# Altium schematic symbol library RM_addition.SchLib: 86 symbols
Pins are listed as number, name and electrical type; pins without a type are passive.

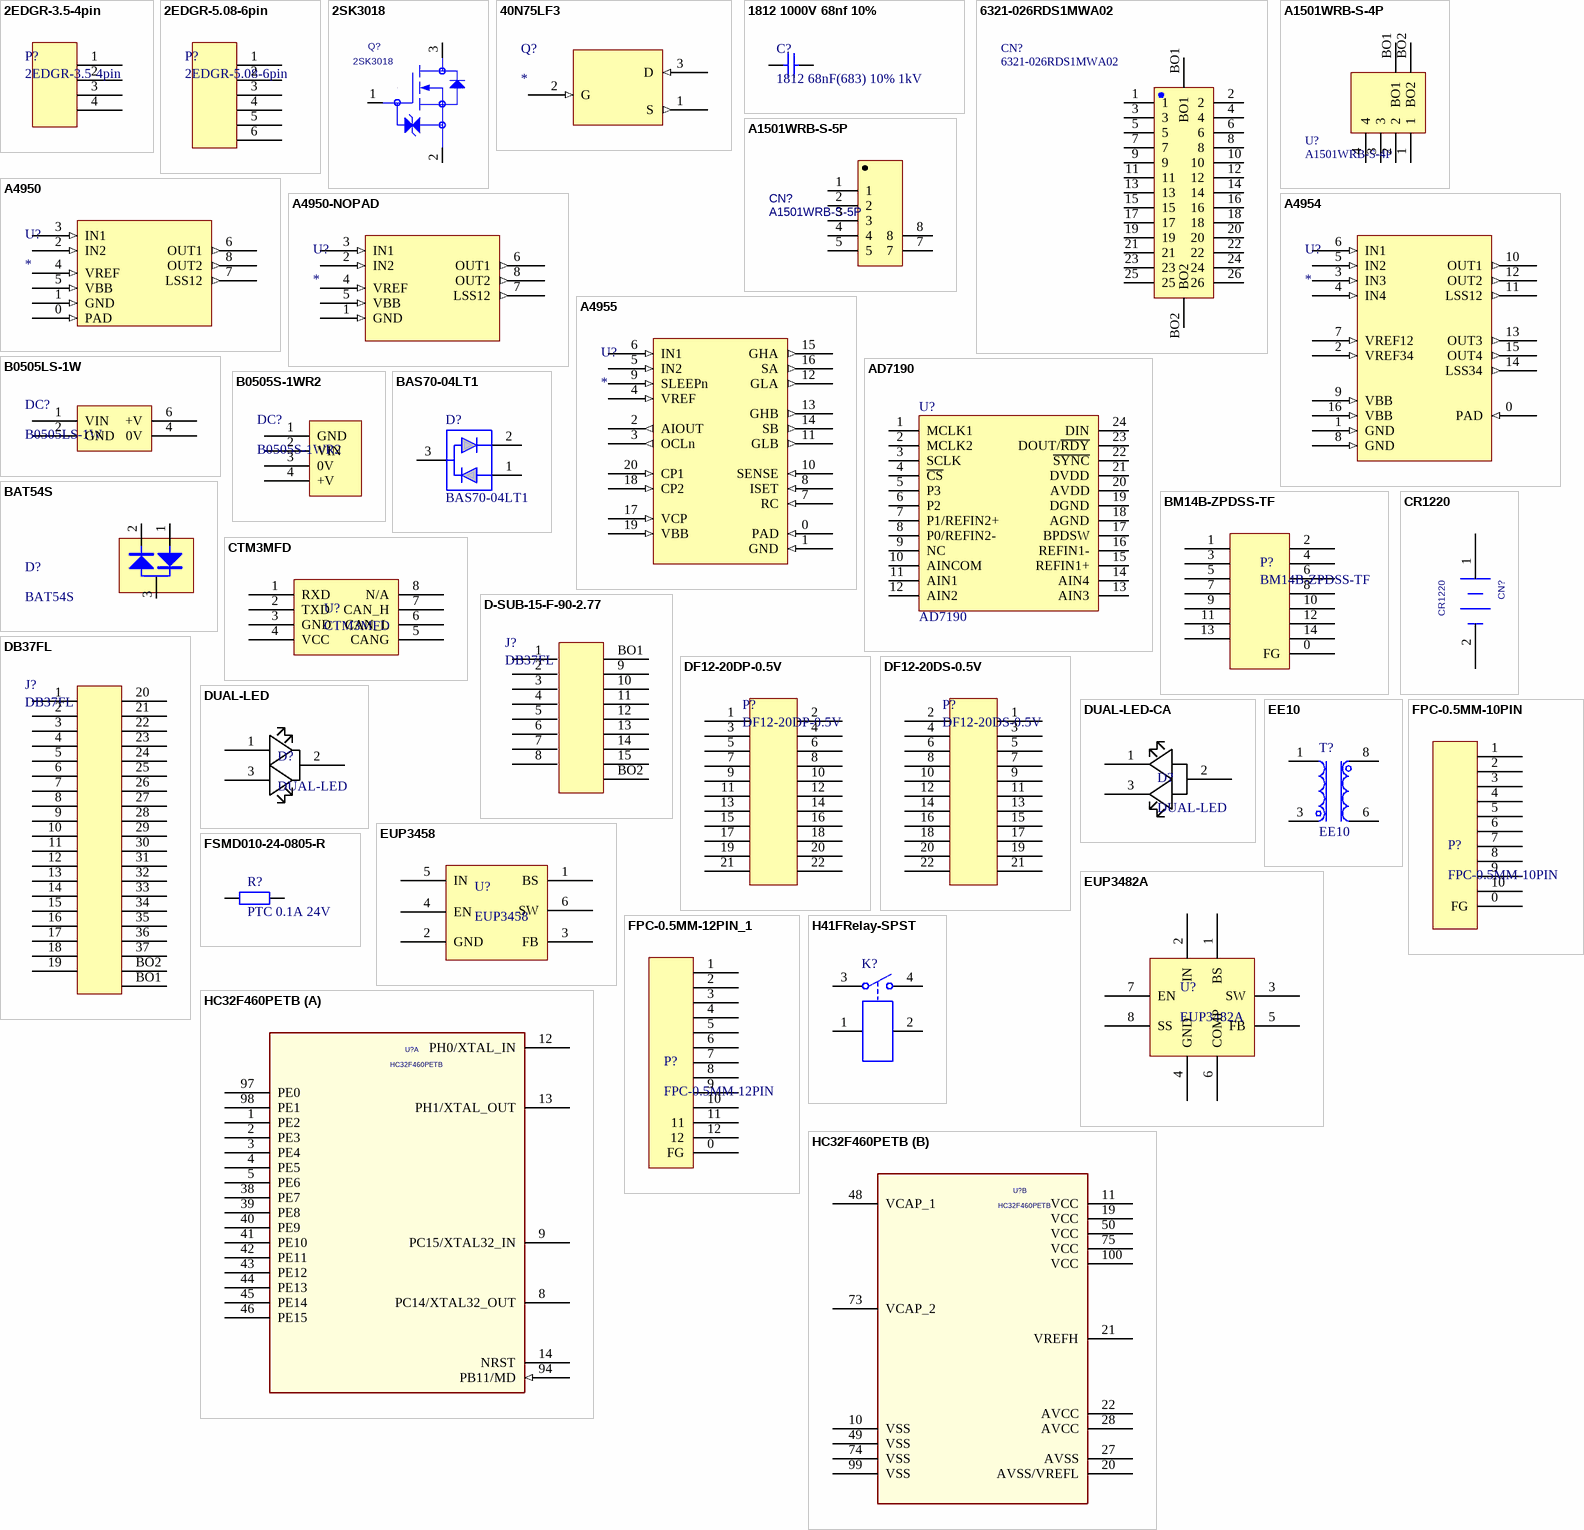
[diagram p0: symbols 2EDGR-3.5-4pin to HC32F460PETB]

## 2EDGR-3.5-4pin
designator P?
footprint KF2EDGR-3.5MM-4P
pins: 1 (oc), 2 (oc), 3 (oc), 4 (oc)

## 2EDGR-5.08-6pin
designator P?
footprint 2EDGR-6PIN-5P08
pins: 1 (oc), 2 (oc), 3 (oc), 4 (oc), 5 (oc), 6 (oc)

## 2SK3018
designator Q?
TRANS MOSFET N-CH 30V .1A SOT-323; PCB DECAL: SOT23; AGILE_PN: 480-75317; MFG_NAME01: ROHM; MFG_PN01: 2SK3018T106; CAD_APPROVED: Yes; Source_Path: H:\NXP_RT1050\SCH\CORE_SCH\IMXRT1052_180113.DSN; CLASS: IC; ROHS: Yes; HEIGHT: 0.9MM; Value: 2SK3018
footprint SOT-23(SOT-23-3)
pins: 1 GATE, 2 SOURCE, 3 DRAIN

## 40N75LF3
designator Q?
N-Ch MOSFET
footprint SOP-8_150mil
pins: 1 S (out), 2 G (in), 3 D (in)

## 1812 1000V 68nf 10%
designator C?, comment 1812 68nF(683) 10% 1kV
footprint 1812_C
pins: 1, 2

## 6321-026RDS1MWA02
designator CN?
SCSI连接器 26P; BOM_Manufacturer: Wcon; Contributor: LCSC; BOM_Supplier: LCSC; BOM_Supplier Part: C843200; BOM_Manufacturer Part: 6321-026RDS1MWA02; BOM_JLCPCB Part Class: Extended Part; spicePre: D; spiceSymbolName: 6321-026RDS1MWA02
footprint CONN-TH_6321-026RDS1MWA02
pins: 1, 2, 3, 4, 5, 6, 7, 8, 9, 10, 11, 12, 13, 14, 15, 16, 17, 18, 19, 20, 21, 22, 23, 24, 25, 26, BO1, BO2

## A1501WRB-S-4P
designator U?
线对板/线对线连接器; BOM_Manufacturer: Changjiang Connectors; Contributor: LCSC; BOM_Supplier: LCSC; BOM_Supplier Part: C273026; BOM_Manufacturer Part: A1501WRB-S-4P; BOM_JLCPCB Part Class: Extended Part; spicePre: U; spiceSymbolName: A1501WRB-S-4P
footprint CONN-SMD_4P-P1.50_A1501WRB-S-4P
pins: 1, 2, 3, 4, BO1, BO2

## A1501WRB-S-5P
designator CN?
线对线/线对板连接器; BOM_Manufacturer: Changjiang Connectors; Contributor: LCSC; BOM_Supplier: LCSC; BOM_Supplier Part: C273027; BOM_Manufacturer Part: A1501WRB-S-5P; BOM_JLCPCB Part Class: Extended Part; spicePre: C; spiceSymbolName: A1501WRB-S-5P
footprint CONN-SMD_A1501WRB-S-5P (线对线/线对板连接器)
pins: 1, 2, 3, 4, 5, 7, 8

## A4950
designator U?
full-bridge  PWM Gate Driver
footprint SOIC-8_EP_150mil
pins: 0 PAD (in), 1 GND (in), 2 IN2 (in), 3 IN1 (in), 4 VREF (in), 5 VBB (in), 6 OUT1 (out), 7 LSS12 (out), 8 OUT2 (out)

## A4950-NOPAD
designator U?
full-bridge  PWM Gate Driver
footprint SOIC-8_150mil
pins: 1 GND (in), 2 IN2 (in), 3 IN1 (in), 4 VREF (in), 5 VBB (in), 6 OUT1 (out), 7 LSS12 (out), 8 OUT2 (out)

## A4954
designator U?
full-bridge  PWM Gate Driver
footprint HTSSOP-16
pins: 0 PAD (in), 1 GND (in), 2 VREF34 (in), 3 IN3 (in), 4 IN4 (in), 5 IN2 (in), 6 IN1 (in), 7 VREF12 (in), 8 GND (in), 9 VBB (in), 10 OUT1 (out), 11 LSS12 (out), 12 OUT2 (out), 13 OUT3 (out), 14 LSS34 (out), 15 OUT4 (out), 16 VBB (in)

## A4955
designator U?
full-bridge  PWM Gate Driver
footprint HTSSOP-20
pins: 0 PAD (in), 1 GND (in), 2 AIOUT (out), 3 OCLn (out), 4 VREF (in), 5 IN2 (in), 6 IN1 (in), 7 RC (in), 8 ISET (in), 9 SLEEPn (in), 10 SENSE (in), 11 GLB (out), 12 GLA (out), 13 GHB (out), 14 SB (out), 15 GHA (out), 16 SA (out), 17 VCP (in), 18 CP2 (in), 19 VBB (in), 20 CP1 (in)

## AD7190
designator U?
footprint TSSOP-24
pins: 1 MCLK1, 2 MCLK2, 3 SCLK, 4 ~{CS}, 5 P3, 6 P2, 7 P1/REFIN2+, 8 P0/REFIN2-, 9 NC, 10 AINCOM, 11 AIN1, 12 AIN2, 13 AIN3, 14 AIN4, 15 REFIN1+, 16 REFIN1-, 17 BPDSW, 18 AGND, 19 DGND, 20 AVDD, 21 DVDD, 22 ~{SYNC}, 23 DOUT/~{RDY}, 24 DIN

## B0505LS-1W
designator DC?
B0505LS-1W 5V TO 5V，1W; ComponentLink1Description: datasheet; ComponentLink1URL: https://www.mornsun-power.com/uploads/pdf/B_LS-1W.pdf
footprint SIP-4
pins: 1 VIN (power), 2 GND (power), 4 0V (power), 6 +V (power)

## B0505S-1WR2
designator DC?
B0505LS-1W 5V TO 5V，1W; ComponentLink1Description: datasheet; ComponentLink1URL: https://www.mornsun-power.com/uploads/pdf/B_LS-1W.pdf
footprint B-1WR2
pins: 1 GND (power), 2 VIN (power), 3 0V (power), 4 +V (power)

## BAS70-04LT1
designator D?
70V,70mA,VF=0.41V@1mA
footprint SOT-23-3L
pins: 1 DIODE1, 2 DIODE2, 3 COM_CATHODE

## BAT54S
designator D?
Package: LC-SOP-16_150mil; Supplier: LC; SuppliersPartNumber: C43697
footprint SOT-23(SOT-23-3)
pins: 1 1INA, 2 1INB, 3 1OUTB

## BM14B-ZPDSS-TF
designator P?
JST; ComponentLink1Description: TAOBAO; ComponentLink1URL: https://item.taobao.com/item.htm?id=601743351670&tracelogww=ltckbburl
footprint BM14B-ZPDSS-TF
pins: 0 FG (oc), 1 (oc), 2 (oc), 3 (oc), 4 (oc), 5 (oc), 6 (oc), 7 (oc), 8 (oc), 9 (oc), 10 (oc), 11 (oc), 12 (oc), 13 (oc), 14 (oc)

## CR1220
designator CN?
Source_Path: H:\NXP_RT1050\SCH\SCHLIB\YHSCHLIB.OLB; PCB DECAL: CR1220; Value: CR1220
footprint CR1220
pins: 1 BAT, 2 GND

## CTM3MFD
designator U?
隔离3.3 CAN模组; ComponentLink1Description: 立创; ComponentLink1URL: https://item.szlcsc.com/144669.html
footprint RSM485M
pins: 1 RXD (oc), 2 TXD (oc), 3 GND (oc), 4 VCC (oc), 5 CANG (oc), 6 CAN_L (oc), 7 CAN_H (oc), 8 N/A (oc)

## D-SUB-15-F-90-2.77
designator J?, comment DB37FL
footprint D-SUB-15P-F-90-2.77 (90度弯角)
pins: 1, 2, 3, 4, 5, 6, 7, 8, 9, 10, 11, 12, 13, 14, 15, BO1 (oc), BO2 (oc)

## DB37FL
designator J?
footprint DB37FL (90度弯角)
pins: 1, 2, 3, 4, 5, 6, 7, 8, 9, 10, 11, 12, 13, 14, 15, 16, 17, 18, 19, 20, 21, 22, 23, 24, 25, 26, 27, 28, 29, 30, 31, 32, 33, 34, 35, 36, 37, BO1 (oc), BO2 (oc)

## DF12-20DP-0.5V
designator P?
footprint DF12-20DP-0.5V (HRS BTB DF12-20DP-0.5V)
pins: 1 (oc), 2 (oc), 3 (oc), 4 (oc), 5 (oc), 6 (oc), 7 (oc), 8 (oc), 9 (oc), 10 (oc), 11 (oc), 12 (oc), 13 (oc), 14 (oc), 15 (oc), 16 (oc), 17 (oc), 18 (oc), 19 (oc), 20 (oc), 21 (oc), 22 (oc)

## DF12-20DS-0.5V
designator P?
footprint DF12-20DS-0.5V (HRS BTB DF12-20DS-0.5V)
pins: 1 (oc), 2 (oc), 3 (oc), 4 (oc), 5 (oc), 6 (oc), 7 (oc), 8 (oc), 9 (oc), 10 (oc), 11 (oc), 12 (oc), 13 (oc), 14 (oc), 15 (oc), 16 (oc), 17 (oc), 18 (oc), 19 (oc), 20 (oc), 21 (oc), 22 (oc)

## DUAL-LED
designator D?
footprint DUAL-LED
pins: 1, 2, 3

## DUAL-LED-CA
designator D?, comment DUAL-LED
footprint DUAL-LED
pins: 1, 2, 3

## EE10
designator T?
Transformer; Published: 24-Mar-1999; LatestRevisionDate: 08-Jul-2005; LatestRevisionNote: Mech Layer 1 removed.; PackageReference: TRANS; Publisher: Altium Limited; PackageDescription: Transformer; 4 Leads
simulation model TRANSFORMER (Transformer)
footprint EE10-TRAN
pins: 1, 3, 6, 8

## EUP3458
designator U?
EUP3458-1.2A,30V,1.2MHz降压型DC-DC变换器
footprint SOT-23-6
pins: 1 BS (power) "vss", 2 GND (power) "vss", 3 FB (power) "vss", 4 EN (power) "vss", 5 IN (power) "vss", 6 SW (power) "vss"

## EUP3482A
designator U?
2A, 30V, 340KHz Synchronous / Step-Down Converter
footprint SOP-8_150mil
pins: 1 BS (power) "vss", 2 IN (power) "vss", 3 SW (power) "vss", 4 GND (power) "vss", 5 FB (oc), 6 COMP (oc), 7 EN (power) "vss", 8 SS (power) "vss"

## FPC-0.5MM-10PIN
designator P?
footprint Edge Connector-0.5mm-10PIN
pins: 0 FG (oc), 1 (oc), 2 (oc), 3 (oc), 4 (oc), 5 (oc), 6 (oc), 7 (oc), 8 (oc), 9 (oc), 10 (oc)

## FPC-0.5MM-12PIN_1
designator P?, comment FPC-0.5MM-12PIN
footprint Edge Connector-0.5mm-12PIN
pins: 0 FG (oc), 1 (oc), 2 (oc), 3 (oc), 4 (oc), 5 (oc), 6 (oc), 7 (oc), 8 (oc), 9 (oc), 10 (oc), 11 (oc), 12 (oc)

## FSMD010-24-0805-R
designator R?, comment PTC 0.1A 24V
PTC自恢复保险丝; ComponentLink1Description: 供应商链接; ComponentLink1URL: http://www.szlcsc.com/product/details_26014.html; Package: 0805; Supplier: LC; SuppliersPartNumber: C25271
footprint 0805_R
pins: 1, 2

## H41FRelay-SPST
designator K?
Single-Pole Single-Throw Relay; Published: 24-Mar-1999; LatestRevisionDate: 17-Jul-2002; LatestRevisionNote: Re-released for DXP Platform.; PackageReference: MODULE4; Publisher: Altium Limited
footprint HF41F/24-HS
simulation model SPSTRELAY (Spice Subcircuit)
pins: 1, 2, 3, 4

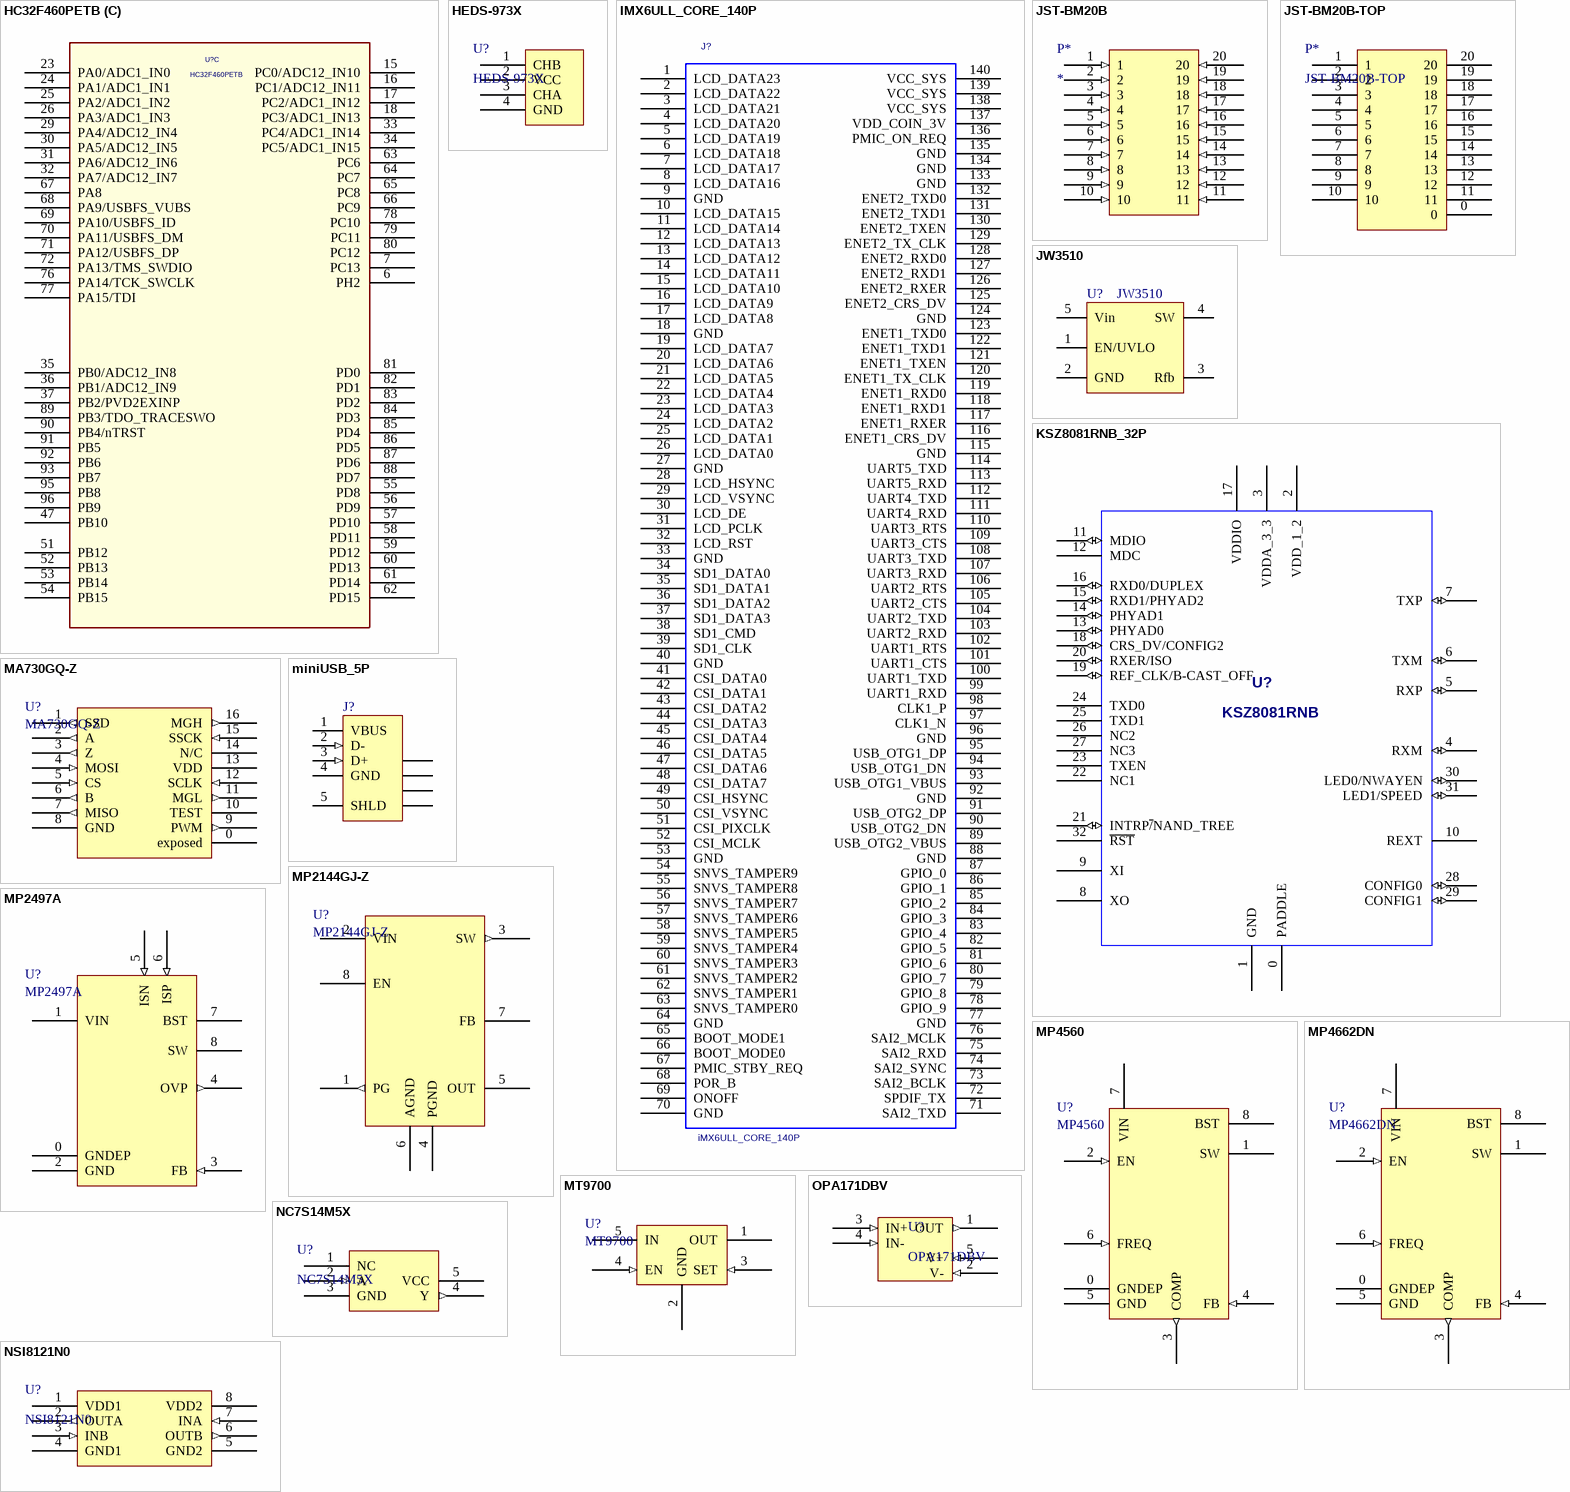
[diagram p1: symbols HC32F460PETB to OPA171DBV]

## HC32F460PETB
designator U?, comment < Value >: HC32F460PETB  (hidden comment: Value)
OriginalSymbolOrigin: (20000,20000); C: Copyright (C) 2016 Accelerated Designs. All rights reserved; Designator: 3; MFG_NAME01: HDSC; Copyright: Copyright (C) 2016 Accelerated Designs. All rights reserved; Manufacturer_Part_Number: HC32F460PETB; PackageName: HC32F460PETB; MFG_PN01: HC32F460PETB
footprint LQFP-100_14x14x05P
part A pins: 1 PE2, 2 PE3, 3 PE4, 4 PE5, 5 PE6, 8 PC14/XTAL32_OUT, 9 PC15/XTAL32_IN, 12 PH0/XTAL_IN, 13 PH1/XTAL_OUT, 14 NRST, 38 PE7, 39 PE8, 40 PE9, 41 PE10, 42 PE11, 43 PE12, 44 PE13, 45 PE14, 46 PE15, 94 PB11/MD (in), 97 PE0, 98 PE1
part B pins: 10 VSS (power), 11 VCC (power), 19 VCC (power), 20 AVSS/VREFL (power), 21 VREFH (power), 22 AVCC (power), 27 AVSS (power), 28 AVCC (power), 48 VCAP_1 (power), 49 VSS (power), 50 VCC (power), 73 VCAP_2 (power), 74 VSS (power), 75 VCC (power), 99 VSS (power), 100 VCC (power)
part C pins: 6 PH2 (power), 7 PC13, 15 PC0/ADC12_IN10, 16 PC1/ADC12_IN11, 17 PC2/ADC1_IN12, 18 PC3/ADC1_IN13, 23 PA0/ADC1_IN0, 24 PA1/ADC1_IN1, 25 PA2/ADC1_IN2, 26 PA3/ADC1_IN3, 29 PA4/ADC12_IN4, 30 PA5/ADC12_IN5, 31 PA6/ADC12_IN6, 32 PA7/ADC12_IN7, 33 PC4/ADC1_IN14, 34 PC5/ADC1_IN15, 35 PB0/ADC12_IN8, 36 PB1/ADC12_IN9, 37 PB2/PVD2EXINP, 47 PB10, 51 PB12, 52 PB13, 53 PB14, 54 PB15, 55 PD8, 56 PD9, 57 PD10, 58 PD11, 59 PD12, 60 PD13, 61 PD14, 62 PD15, 63 PC6, 64 PC7, 65 PC8, 66 PC9, 67 PA8, 68 PA9/USBFS_VUBS, 69 PA10/USBFS_ID, 70 PA11/USBFS_DM, 71 PA12/USBFS_DP, 72 PA13/TMS_SWDIO, 76 PA14/TCK_SWCLK, 77 PA15/TDI, 78 PC10, 79 PC11, 80 PC12, 81 PD0, 82 PD1, 83 PD2, 84 PD3, 85 PD4, 86 PD5, 87 PD6, 88 PD7, 89 PB3/TDO_TRACESWO, 90 PB4/nTRST, 91 PB5, 92 PB6, 93 PB7, 95 PB8, 96 PB9

## HEDS-973X
designator U?
HEDS-973X 对射式读头
footprint HEDS-9731
pins: 1 CHB (oc), 2 VCC (oc), 3 CHA (oc), 4 GND (oc)

## IMX6ULL_CORE_140P
designator J?
PCB DECAL: 6ULL_CORE_140P_39X39; Source_Path: C:\MYPROGRAM\CADENCE\SPB_16.6\TOOLS\CAPTURE\LIBRARY\SCH.OLB; Value: iMX6ULL_CORE_140P
footprint IMX6ULL_SOM_S1_140P_39X39
pins: 1 LCD_DATA23 (oc), 2 LCD_DATA22 (oc), 3 LCD_DATA21 (oc), 4 LCD_DATA20 (oc), 5 LCD_DATA19 (oc), 6 LCD_DATA18 (oc), 7 LCD_DATA17 (oc), 8 LCD_DATA16 (oc), 9 GND (oc), 10 LCD_DATA15 (oc), 11 LCD_DATA14 (oc), 12 LCD_DATA13 (oc), 13 LCD_DATA12 (oc), 14 LCD_DATA11 (oc), 15 LCD_DATA10 (oc), 16 LCD_DATA9 (oc), 17 LCD_DATA8 (oc), 18 GND (oc), 19 LCD_DATA7 (oc), 20 LCD_DATA6 (oc), 21 LCD_DATA5 (oc), 22 LCD_DATA4 (oc), 23 LCD_DATA3 (oc), 24 LCD_DATA2 (oc), 25 LCD_DATA1 (oc), 26 LCD_DATA0 (oc), 27 GND (oc), 28 LCD_HSYNC (oc), 29 LCD_VSYNC (oc), 30 LCD_DE (oc), 31 LCD_PCLK (oc), 32 LCD_RST (oc), 33 GND (oc), 34 SD1_DATA0 (oc), 35 SD1_DATA1 (oc), 36 SD1_DATA2 (oc), 37 SD1_DATA3 (oc), 38 SD1_CMD (oc), 39 SD1_CLK (oc), 40 GND (oc), 41 CSI_DATA0 (oc), 42 CSI_DATA1 (oc), 43 CSI_DATA2 (oc), 44 CSI_DATA3 (oc), 45 CSI_DATA4 (oc), 46 CSI_DATA5 (oc), 47 CSI_DATA6 (oc), 48 CSI_DATA7 (oc), 49 CSI_HSYNC (oc), 50 CSI_VSYNC (oc), 51 CSI_PIXCLK (oc), 52 CSI_MCLK (oc), 53 GND (oc), 54 SNVS_TAMPER9 (oc), 55 SNVS_TAMPER8 (oc), 56 SNVS_TAMPER7 (oc), 57 SNVS_TAMPER6 (oc), 58 SNVS_TAMPER5 (oc), 59 SNVS_TAMPER4 (oc), 60 SNVS_TAMPER3 (oc), 61 SNVS_TAMPER2 (oc), 62 SNVS_TAMPER1 (oc), 63 SNVS_TAMPER0 (oc), 64 GND (oc), 65 BOOT_MODE1 (oc), 66 BOOT_MODE0 (oc), 67 PMIC_STBY_REQ (oc), 68 POR_B (oc), 69 ONOFF (oc), 70 GND (oc), 71 SAI2_TXD (oc), 72 SPDIF_TX (oc), 73 SAI2_BCLK (oc), 74 SAI2_SYNC (oc), 75 SAI2_RXD (oc), 76 SAI2_MCLK (oc), 77 GND (oc), 78 GPIO_9 (oc), 79 GPIO_8 (oc), 80 GPIO_7 (oc), 81 GPIO_6 (oc), 82 GPIO_5 (oc), 83 GPIO_4 (oc), 84 GPIO_3 (oc), 85 GPIO_2 (oc), 86 GPIO_1 (oc), 87 GPIO_0 (oc), 88 GND (oc), 89 USB_OTG2_VBUS (oc), 90 USB_OTG2_DN (oc), 91 USB_OTG2_DP (oc), 92 GND (oc), 93 USB_OTG1_VBUS (oc), 94 USB_OTG1_DN (oc), 95 USB_OTG1_DP (oc), 96 GND (oc), 97 CLK1_N (oc), 98 CLK1_P (oc), 99 UART1_RXD (oc), 100 UART1_TXD (oc), 101 UART1_CTS (oc), 102 UART1_RTS (oc), 103 UART2_RXD (oc), 104 UART2_TXD (oc), 105 UART2_CTS (oc), 106 UART2_RTS (oc), 107 UART3_RXD (oc), 108 UART3_TXD (oc), 109 UART3_CTS (oc), 110 UART3_RTS (oc), 111 UART4_RXD (oc), 112 UART4_TXD (oc), 113 UART5_RXD (oc), 114 UART5_TXD (oc), 115 GND (oc), 116 ENET1_CRS_DV (oc), 117 ENET1_RXER (oc), 118 ENET1_RXD1 (oc), 119 ENET1_RXD0 (oc), 120 ENET1_TX_CLK (oc), 121 ENET1_TXEN (oc), 122 ENET1_TXD1 (oc), 123 ENET1_TXD0 (oc), 124 GND (oc), 125 ENET2_CRS_DV (oc), 126 ENET2_RXER (oc), 127 ENET2_RXD1 (oc), 128 ENET2_RXD0 (oc), 129 ENET2_TX_CLK (oc), 130 ENET2_TXEN (oc), 131 ENET2_TXD1 (oc), 132 ENET2_TXD0 (oc), 133 GND (oc), 134 GND (oc), 135 GND (oc), 136 PMIC_ON_REQ (oc), 137 VDD_COIN_3V (oc), 138 VCC_SYS (oc), 139 VCC_SYS (oc), 140 VCC_SYS (oc)

## JST-BM20B
designator P*
JST_BM20B-GHDS-G-TF
footprint BM20B-TOP
pins: 1 (in), 2 (in), 3 (in), 4 (in), 5 (in), 6 (in), 7 (in), 8 (in), 9 (in), 10 (in), 11 (in), 12 (in), 13 (in), 14 (in), 15 (in), 16 (in), 17 (in), 18 (in), 19 (in), 20 (in)

## JST-BM20B-TOP
designator P*
footprint JST-BM20B-TOP
pins: 0 (oc), 1 (oc), 2 (oc), 3 (oc), 4 (oc), 5 (oc), 6 (oc), 7 (oc), 8 (oc), 9 (oc), 10 (oc), 11 (oc), 12 (oc), 13 (oc), 14 (oc), 15 (oc), 16 (oc), 17 (oc), 18 (oc), 19 (oc), 20 (oc)

## JW3510
designator U?
48VIN Micropower No-Opto / Isolated Flyback Converter with 75V/1.4A Switch
footprint SOT-23-5
pins: 1 EN/UVLO, 2 GND, 3 Rfb, 4 SW, 5 Vin

## KSZ8081RNB_32P
designator U?  value KSZ8081RNB  (hidden comment: KSZ8081RNB_32P)
IC XCVR 10/100M EPHY 3.3V QFN32; CAD_APPROVED: Yes; MFG_PN01: KSZ8081RNBIA; MFG_NAME01: Micrel; AGILE_PN: 312-81089; PCB DECAL: QFN32_0P5_EP3P3; Source_Path: Q:\ORCADCIS\SYMBOLS\FCL_IC5.OLB; HEIGHT: 0.9MM; ROHS: Yes; CLASS: IC
footprint QFN-32_5x5x05P
pins: 0 PADDLE (power), 1 GND (power), 2 VDD_1_2 (power), 3 VDDA_3_3 (power), 4 RXM (io), 5 RXP (io), 6 TXM (io), 7 TXP (io), 8 XO, 9 XI, 10 REXT, 11 MDIO (io), 12 MDC, 13 PHYAD0 (io), 14 PHYAD1 (io), 15 RXD1/PHYAD2 (io), 16 RXD0/DUPLEX (io), 17 VDDIO (power), 18 CRS_DV/CONFIG2 (io), 19 REF_CLK/B-CAST_OFF (io), 20 RXER/ISO (io), 21 INTRP~{/}NAND_TREE (io), 22 NC1, 23 TXEN, 24 TXD0, 25 TXD1, 26 NC2, 27 NC3, 28 CONFIG0 (io), 29 CONFIG1 (io), 30 LED0/NWAYEN (io), 31 LED1/SPEED (io), 32 ~{RST}

## MA730GQ-Z
designator U?
角度传感器
footprint QFN-16_3x3x05P (QFN, 16-Leads, Body 3.00x3.00mm, Pitch 0.50mm, Thermal Pad 1.70x1.70mm, IPC Medium Density)
pins: 0 exposed (oc), 1 SSD (out), 2 A (out), 3 Z (out), 4 MOSI (in), 5 CS (in), 6 B (out), 7 MISO (out), 8 GND (power), 9 PWM (out), 10 TEST (power), 11 MGL (out), 12 SCLK (in), 13 VDD (power), 14 N/C, 15 SSCK (in), 16 MGH (out)

## miniUSB_5P
designator J?
USB 2.0, Right Angle, SMT, AB Type, Receptacle, 5 Position, Black; ContactMaterial: Phosphor Bronze; ContactPlating: Gold (30) over Nickel; PCB_Layout: Complies with manufacturer's recommendation.; DrillSize: Corresponds to nominal value.; PanelGround: Without; Published: 15-Jul-2004; DatasheetDocument: 28-Jan-2003; PackageDocument: 28-Jan-2003; PackageReference: 440479; Publisher: Altium Limited; HousingMaterial: Thermoplastic; ComponentLink1Description: Manufacturer Link; ComponentLink1URL: http://www.tycoelectronics.com/; ComponentLink2Description: Packaging Specification; ComponentLink2URL: http://ecommas.tycoelectronics.com/commerce/DocumentDelivery/DDEController?Action=showdoc&DocId=Customer+Drawing%7F440479%7FD%7Fpdf%7FEnglish%7FC_440479_D.pdf
signal-integrity model USB2.0
footprint miniUSB_5P (Connector; USB2.0, Type AB, SM; 5 Position; Right Angle)
pins: 1 VBUS (power) "Power", 2 D- (in) "-DATA", 3 D+ (in) "+DATA", 4 GND (power) "Ground", 5 SHLD "Shield", 6 SHLD "Shield", 7 SHLD "Shield", 8 SHLD "Shield", 9 SHLD "Shield"

## MP2144GJ-Z
designator U?
2A, 5.5V, 1.2MHz, 40μA IQ, COT Synchronous Step Down Switcher; ComponentLink1Description: 立创商城; ComponentLink1URL: https://item.szlcsc.com/31423.html
footprint SOT-23-8
pins: 1 PG (out), 2 VIN (power), 3 SW (out), 4 PGND (power), 5 OUT (power), 6 AGND (power), 7 FB (oc), 8 EN (oc)

## MP2497A
designator U?
3A, 50V, 100kHz fast switching Step-Down Converter with Programmable Output OVP Threshold; ComponentLink1Description: 立创商城; ComponentLink1URL: https://item.szlcsc.com/41115.html
footprint SOIC-8_EP_150mil
pins: 0 GNDEP (power), 1 VIN (power), 2 GND (power), 3 FB (in), 4 OVP (out), 5 ISN (in), 6 ISP (in), 7 BST (power), 8 SW (oc)

## MP4560
designator U?
MP4560 – 2A, 2MHz, 55V STEP-DOWN CONVERTER; ComponentLink1Description: 立创商城; ComponentLink1URL: https://item.szlcsc.com/41115.html
footprint SOIC-8_EP_150mil
pins: 0 GNDEP (power), 1 SW (oc), 2 EN (in), 3 COMP (out), 4 FB (in), 5 GND (power), 6 FREQ (in), 7 VIN (power), 8 BST (power)

## MP4662DN
designator U?
MP4462 – 3.5A, 4MHz, 36V STEP-DOWN CONVERTER; ComponentLink1Description: 立创商城; ComponentLink1URL: https://item.szlcsc.com/29149.html
footprint SOIC-8_EP_150mil
pins: 0 GNDEP (power), 1 SW (oc), 2 EN (in), 3 COMP (out), 4 FB (in), 5 GND (power), 6 FREQ (in), 7 VIN (power), 8 BST (power)

## MT9700
designator U?
footprint SOT-23-5
pins: 1 OUT (power), 2 GND (power), 3 SET (in), 4 EN (in), 5 IN (power)

## NC7S14M5X
designator U?
https://item.szlcsc.com/7893.html
footprint SOT-23-5
pins: 1 NC, 2 A (in), 3 GND (power), 4 Y (out), 5 VCC (power)

## NSI8121N0
designator U?
高可靠性2通道标准数字隔离器; ComponentLink1Description: 立创; ComponentLink1URL: https://item.szlcsc.com/382410.html
footprint SOIC-8_150mil
pins: 1 VDD1 (power), 2 OUTA (out), 3 INB (in), 4 GND1 (power), 5 GND2 (power), 6 OUTB (out), 7 INA (in), 8 VDD2 (power)

## OPA171DBV
designator U?
https://item.szlcsc.com/89214.html
footprint SOT-23-5
pins: 1 OUT (out), 2 V- (in), 3 IN+ (in), 4 IN- (in), 5 V+ (in)

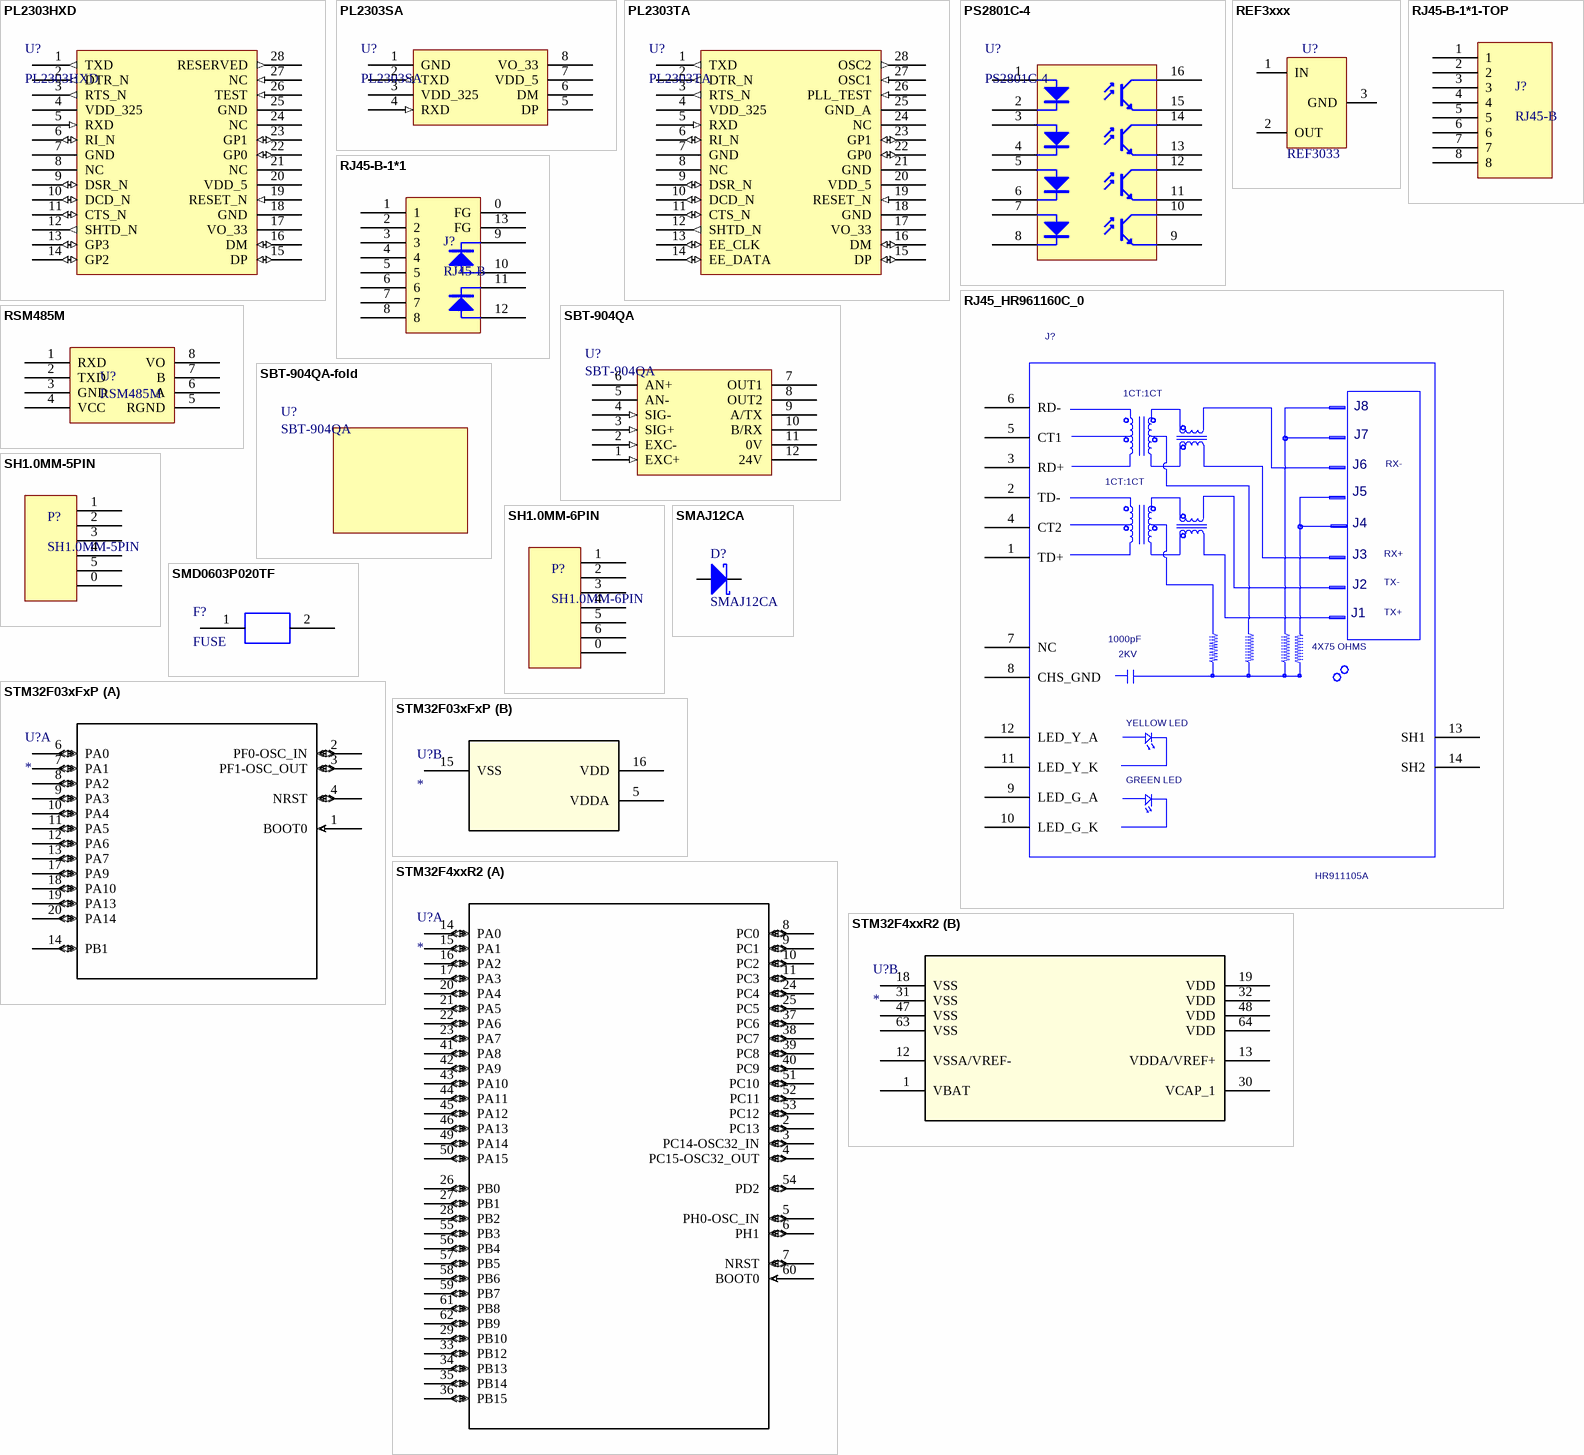
[diagram p2: symbols PL2303HXD to STM32F4xxR2]

## PL2303HXD
designator U?
footprint SSOP-28_208mil
pins: 1 TXD (out), 2 DTR_N (out), 3 RTS_N (out), 4 VDD_325, 5 RXD (in), 6 RI_N (io), 7 GND, 8 NC, 9 DSR_N (io), 10 DCD_N (io), 11 CTS_N (io), 12 SHTD_N (out), 13 GP3 (io), 14 GP2 (io), 15 DP (io), 16 DM (io), 17 VO_33, 18 GND, 19 RESET_N (in), 20 VDD_5, 21 NC, 22 GP0 (io), 23 GP1 (io), 24 NC, 25 GND, 26 TEST (in), 27 NC (in), 28 RESERVED (out)

## PL2303SA
designator U?
PL2303SA SOP8,; ComponentLink1Description: C57946; ComponentLink1URL: https://item.szlcsc.com/58983.html
footprint SOP-8_150mil
pins: 1 GND (power), 2 TXD (out), 3 VDD_325 (power), 4 RXD (in), 5 DP (oe), 6 DM (oe), 7 VDD_5 (power), 8 VO_33 (power)

## PL2303TA
designator U?
footprint SSOP-28_208mil
pins: 1 TXD (out), 2 DTR_N (out), 3 RTS_N (out), 4 VDD_325, 5 RXD (in), 6 RI_N (io), 7 GND, 8 NC, 9 DSR_N (io), 10 DCD_N (io), 11 CTS_N (io), 12 SHTD_N (out), 13 EE_CLK (io), 14 EE_DATA (io), 15 DP (io), 16 DM (io), 17 VO_33, 18 GND, 19 RESET_N (in), 20 VDD_5, 21 GND, 22 GP0 (io), 23 GP1 (io), 24 NC, 25 GND_A, 26 PLL_TEST (in), 27 OSC1 (in), 28 OSC2 (out)

## PS2801C-4
designator U?
贴片光耦; Package: LC-SOP-16_150mil; Supplier: LC; SuppliersPartNumber: C43697
footprint LC-SOP-16_208mil
pins: 1 1INA, 2 1INB, 3 2INA, 4 2INB, 5 3INA, 6 3INB, 7 4INA, 8 4INB, 9 4OUTB, 10 4OUTA, 11 3OUTB, 12 3OUTA, 13 2OUTB , 14 2OUTA, 15 1OUTB, 16 1OUTA

## REF3xxx
designator U?, comment REF3033
REF3xxx
footprint SOT-23-3L
pins: 1 IN, 2 OUT, 3 GND

## RJ45-B-1*1
designator J?, comment RJ45-B
https://item.szlcsc.com/149710.html
footprint RJ45-B-1*1
pins: 0 FG, 1, 2, 3, 4, 5, 6, 7, 8, 9, 10, 11, 12, 13 FG

## RJ45-B-1*1-TOP
designator J?, comment RJ45-B
https://item.szlcsc.com/459357.html
footprint RJ45-B-1*1
pins: 1, 2, 3, 4, 5, 6, 7, 8

## RJ45_HR961160C_0
designator J?  value HR911105A  (hidden comment: RJ45_HR961160C_0)
CON 12 RJ45 SHLD RA SM 1.02MM SP 625H --; AGILE_PN: 211-79967; MFG_NAME01: HanRun Electronics Co., Ltd; CAD_APPROVED: Yes; Source_Path: H:\NXP_RT1050\SCH\IMXRT1052_MB.DSN; CLASS: IO; PCB DECAL: RJ45; MFG_PN01: HR961160C; ROHS: Yes; HEIGHT: 15.88 MM
footprint RJ45-HR911105A
pins: 1 TD+, 2 TD-, 3 RD+, 4 CT2, 5 CT1, 6 RD-, 7 NC, 8 CHS_GND, 9 LED_G_A, 10 LED_G_K, 11 LED_Y_K, 12 LED_Y_A, 13 SH1, 14 SH2
text: 1CT:1CT; J8; J7; RX-; J6; J5; J4; RX+; J3; TX-; J2; TX+; J1; 1000pF; 4X75 OHMS; 2KV; YELLOW LED; GREEN LED

## RSM485M
designator U?
隔离485模组; ComponentLink1Description: 立创; ComponentLink1URL: https://item.szlcsc.com/144669.html
footprint RSM485M
pins: 1 RXD (oc), 2 TXD (oc), 3 GND (oc), 4 VCC (oc), 5 RGND (oc), 6 A (oc), 7 B (oc), 8 VO (oc)

## SBT-904QA
designator U?
SBT-904QA 力变送器
footprint SBT-904QA-TOP
pins: 1 EXC+ (in), 2 EXC- (in), 3 SIG+ (in), 4 SIG- (in), 5 AN- (oc), 6 AN+ (oc), 7 OUT1 (oc), 8 OUT2 (oc), 9 A/TX (oc), 10 B/RX (oc), 11 0V (oc), 12 24V (oc)

## SBT-904QA-fold
designator U?, comment SBT-904QA
SBT-904QA 力变送器
footprint SBT-904QA-FOLD

## SH1.0MM-5PIN
designator P?
https://detail.tmall.com/item.htm?spm=a1z10.5-b.w4011-14813403015.83.19674c6ewzdOkC&id=520324412184&rn=00e22794053a5e59f82049030eef8c8f&abbucket=15&skuId=3101545691570
footprint SH-1.0MM-5PIN
pins: 0 (oc), 1 (oc), 2 (oc), 3 (oc), 4 (oc), 5 (oc)

## SH1.0MM-6PIN
designator P?
https://detail.tmall.com/item.htm?spm=a1z10.5-b.w4011-14813403015.83.19674c6ewzdOkC&id=520324412184&rn=00e22794053a5e59f82049030eef8c8f&abbucket=15&skuId=3101545691570
footprint SH-1.0MM-6PIN
pins: 0 (oc), 1 (oc), 2 (oc), 3 (oc), 4 (oc), 5 (oc), 6 (oc)

## SMAJ12CA
designator D?
footprint SMA(DO-214AC)_S2
pins: 1 A, 2 K

## SMD0603P020TF
designator F?, comment FUSE
C130282
footprint 0603
pins: 1 (power), 2 (power)

## STM32F03xFxP
designator U?
Imported; Manufacturer_Part_Number: stm32f03xfxp; Vendor: STMicroelectronics; C: Copyright (C) 2016 Accelerated Designs. All rights reserved; Copyright: Copyright (C) 2016 Accelerated Designs. All rights reserved; RefDes: RefDes; Type: Type; Value: Value
footprint TSSOP20
part A pins: 1 BOOT0 (in), 2 PF0-OSC_IN (io), 3 PF1-OSC_OUT (io), 4 NRST (io), 6 PA0 (io), 7 PA1 (io), 8 PA2 (io), 9 PA3 (io), 10 PA4 (io), 11 PA5 (io), 12 PA6 (io), 13 PA7 (io), 14 PB1 (io), 17 PA9 (io), 18 PA10 (io), 19 PA13 (io), 20 PA14 (io)
part B pins: 5 VDDA (power), 15 VSS (power), 16 VDD (power)

## STM32F4xxR2
designator U?
Imported; Manufacturer_Part_Number: stm32f4xxr2; Vendor: STMicroelectronics; C: Copyright (C) 2016 Accelerated Designs. All rights reserved; Copyright: Copyright (C) 2016 Accelerated Designs. All rights reserved; RefDes: RefDes; Type: Type; Value: Value
footprint LQFP-64_10x10x05P
part A pins: 2 PC13 (io), 3 PC14-OSC32_IN (io), 4 PC15-OSC32_OUT (io), 5 PH0-OSC_IN (io), 6 PH1 (io), 7 NRST (io), 8 PC0 (io), 9 PC1 (io), 10 PC2 (io), 11 PC3 (io), 14 PA0 (io), 15 PA1 (io), 16 PA2 (io), 17 PA3 (io), 20 PA4 (io), 21 PA5 (io), 22 PA6 (io), 23 PA7 (io), 24 PC4 (io), 25 PC5 (io), 26 PB0 (io), 27 PB1 (io), 28 PB2 (io), 29 PB10 (io), 33 PB12 (io), 34 PB13 (io), 35 PB14 (io), 36 PB15 (io), 37 PC6 (io), 38 PC7 (io), 39 PC8 (io), 40 PC9 (io), 41 PA8 (io), 42 PA9 (io), 43 PA10 (io), 44 PA11 (io), 45 PA12 (io), 46 PA13 (io), 49 PA14 (io), 50 PA15 (io), 51 PC10 (io), 52 PC11 (io), 53 PC12 (io), 54 PD2 (io), 55 PB3 (io), 56 PB4 (io), 57 PB5 (io), 58 PB6 (io), 59 PB7 (io), 60 BOOT0 (in), 61 PB8 (io), 62 PB9 (io)
part B pins: 1 VBAT (power), 12 VSSA/VREF- (power), 13 VDDA/VREF+ (power), 18 VSS (power), 19 VDD (power), 30 VCAP_1 (power), 31 VSS (power), 32 VDD (power), 47 VSS (power), 48 VDD (power), 63 VSS (power), 64 VDD (power)

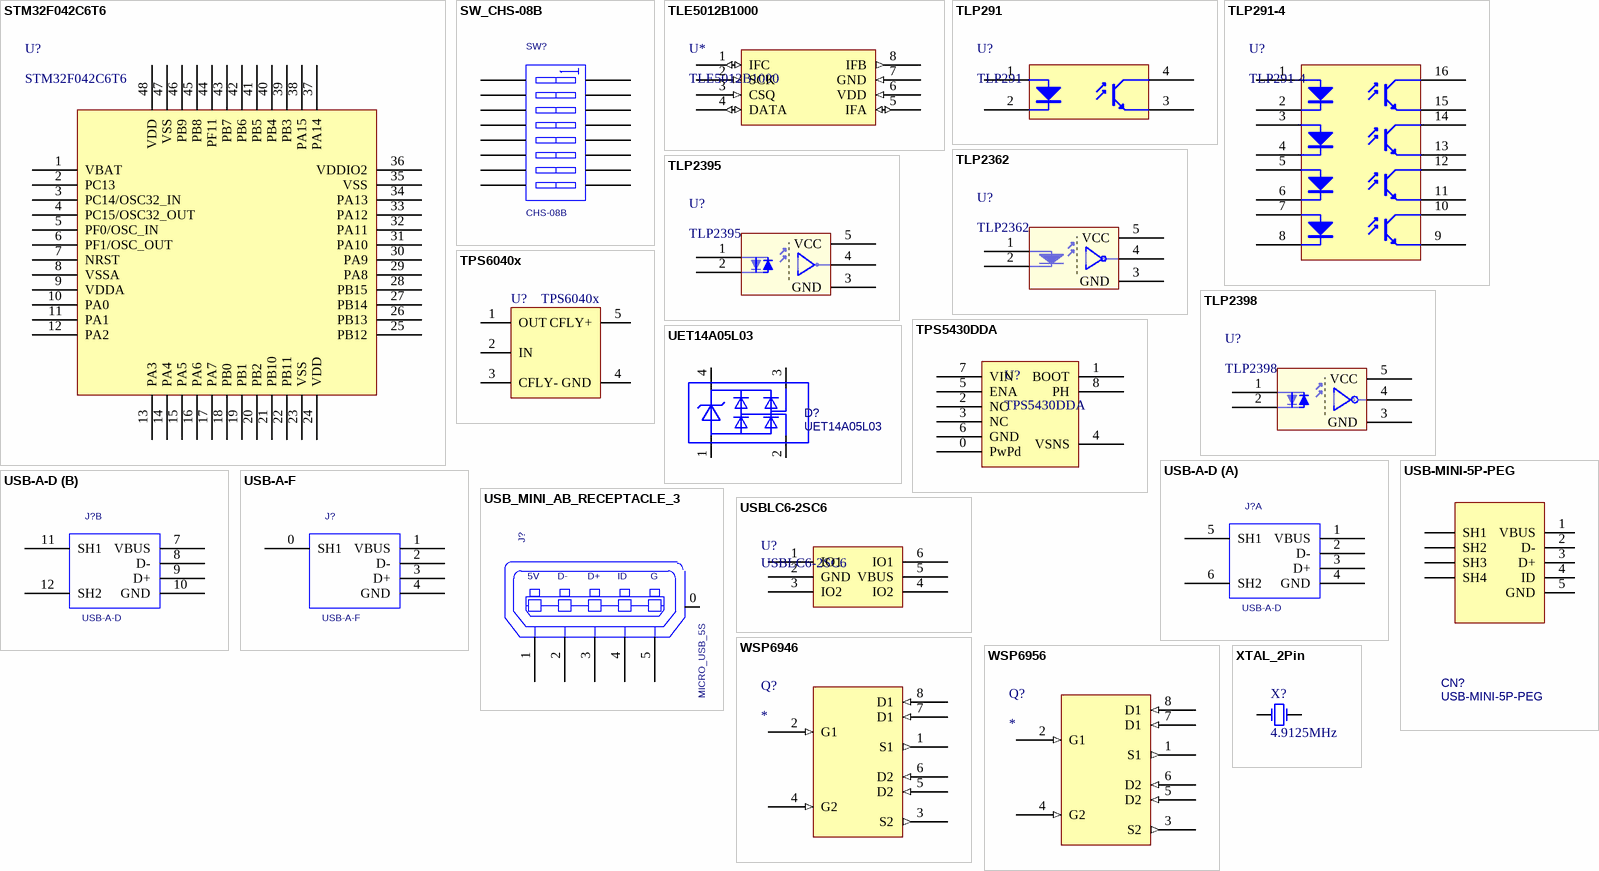
[diagram p3: symbols STM32F042C6T6 to XTAL_2Pin]

## STM32F042C6T6
designator U?
ARM; ComponentLink1Description: 供应商链接; ComponentLink1URL: http://www.szlcsc.com/product/details_24662.html; Package: LQFP-48_7x7x05P; Supplier: LC; SuppliersPartNumber: C23922
footprint LC-LQFP-48_7x7x05P
pins: 1 VBAT, 2 PC13, 3 PC14/OSC32_IN, 4 PC15/OSC32_OUT, 5 PF0/OSC_IN, 6 PF1/OSC_OUT, 7 NRST, 8 VSSA, 9 VDDA, 10 PA0, 11 PA1, 12 PA2, 13 PA3, 14 PA4, 15 PA5, 16 PA6, 17 PA7, 18 PB0, 19 PB1, 20 PB2, 21 PB10, 22 PB11, 23 VSS, 24 VDD, 25 PB12, 26 PB13, 27 PB14, 28 PB15, 29 PA8, 30 PA9, 31 PA10, 32 PA11, 33 PA12, 34 PA13, 35 VSS, 36 VDDIO2, 37 PA14, 38 PA15, 39 PB3, 40 PB4, 41 PB5, 42 PB6, 43 PB7, 44 PF11, 45 PB8, 46 PB9, 47 VSS, 48 VDD

## SW_CHS-08B
designator SW?  value CHS-08B  (hidden comment: SW_CHS-08B)
Source_Path: F:\SCH-PCB\EBF_L002\SCH\EBF_L002.DSN; PCB DECAL: CHS-08B
footprint CHS-08B
pins: 1 A1, 2 A2, 3 A3, 4 A4, 5 A5, 6 A6, 7 A7, 8 A8, 9 B8, 10 B7, 11 B6, 12 B5, 13 B4, 14 B3, 15 B2, 16 B1

## TLE5012B1000
designator U*
GMR-Based Angle Sensor
footprint SOP8_N (5*6*1.8mm（长宽高）)
pins: 1 IFC (io), 2 SCK (in), 3 CSQ (in), 4 DATA (io), 5 IFA (io), 6 VDD (in), 7 GND (in), 8 IFB (out)

## TLP291
designator U?
贴片光耦; Package: LC-SOP-16_150mil; Supplier: LC; SuppliersPartNumber: C43697
footprint SOP-4_P1.27
pins: 1 1INA, 2 1INB, 3 1OUTB, 4 1OUTA

## TLP291-4
designator U?
贴片光耦; Package: LC-SOP-16_150mil; Supplier: LC; SuppliersPartNumber: C43697
footprint LC-SOP-16_208mil
pins: 1 1INA, 2 1INB, 3 2INA, 4 2INB, 5 3INA, 6 3INB, 7 4INA, 8 4INB, 9 4OUTB, 10 4OUTA, 11 3OUTB, 12 3OUTA, 13 2OUTB , 14 2OUTA, 15 1OUTB, 16 1OUTA

## TLP2362
designator U?
贴片光耦; ComponentLink1Description: 供应商链接; ComponentLink1URL: http://www.szlcsc.com/product/details_17178.html; Package: SMD-8_6.3mm; Supplier: LC; SuppliersPartNumber: C16496
footprint SOP-5
pins: 1 A "Anode", 2 K "Cathode", 3 GND, 4 VO, 5 VCC

## TLP2395
designator U?
贴片光耦; ComponentLink1Description: 供应商链接; ComponentLink1URL: http://www.szlcsc.com/product/details_17178.html; Package: SMD-8_6.3mm; Supplier: LC; SuppliersPartNumber: C16496
footprint SOP-5
pins: 1 A "Anode", 2 K "Cathode", 3 GND, 4 VO, 5 VCC

## TLP2398
designator U?
贴片光耦; ComponentLink1Description: 供应商链接; ComponentLink1URL: http://www.szlcsc.com/product/details_17178.html; Package: SMD-8_6.3mm; Supplier: LC; SuppliersPartNumber: C16496
footprint SOP-5
pins: 1 A "Anode", 2 K "Cathode", 3 GND, 4 VO, 5 VCC

## TPS5430DDA
designator U?
Wide Input Range, Step-Down Converter
footprint SOP-8_EP_150mil
pins: 0 PwPd (oc), 1 BOOT (oc), 2 NC (oc), 3 NC (oc), 4 VSNS (oc), 5 ENA (oc), 6 GND (oc), 7 VIN (oc), 8 PH (oc)

## TPS6040x
designator U?
UNREGULATED 60-mA CHARGE PUMP VOLTAGE INVERTER
footprint SOT-23-5
pins: 1 OUT, 2 IN, 3 CFLY-, 4 GND, 5 CFLY+

## UET14A05L03
designator D?
ESD保护器件; BOM_Manufacturer: Brightking; BOM_Supplier: LCSC; BOM_Manufacturer Part: UET14A05L03; BOM_Supplier Part: C78442; BOM_JLCPCB Part Class: Extended Part; spicePre: D; spiceSymbolName: UET14A05L03
footprint SOT-143_L2.9-W1.3-P1.92-LS2.3-BR (静电放电（ESD）保护器件)
pins: 1 A, 2, 3, 4 K

## USB-A-D
designator J?
Source_Path: D:\NXP_RT1050\RT1050_MB_PRO\SCH\IMXRT1052_MB_PRO_0313.DSN; PCB DECAL: USB-A-D; Value: USB-A-D
footprint USB-A-D
part A pins: 1 VBUS, 2 D-, 3 D+, 4 GND, 5 SH1, 6 SH2
part B pins: 7 VBUS, 8 D-, 9 D+, 10 GND, 11 SH1, 12 SH2

## USB-A-F
designator J?
PCB DECAL: USB-A-D; Source_Path: D:\NXP_RT1050\RT1050_MB_PRO\SCH\IMXRT1052_MB_PRO_0313.DSN; Value: USB-A-F
footprint USB-A/F-1
pins: 0 SH1, 1 VBUS, 2 D-, 3 D+, 4 GND

## USB-MINI-5P-PEG
designator CN?
MINIUSB接口-5P; BOM_Manufacturer: ValuePro; BOM_Supplier: LCSC; BOM_Manufacturer Part: USB-MINI-5P-PEG; BOM_Supplier Part: C69074; BOM_JLCPCB Part Class: Extended Part; spicePre: C; spiceSymbolName: USB-MINI-5P-PEG
footprint MICRO-USB-SMD_MINI5P
pins: 1 VBUS, 2 D-, 3 D+, 4 ID, 5 GND, SH1, SH2, SH3, SH4

## USB_MINI_AB_RECEPTACLE_3
designator J?  value MICRO_USB_5S  (hidden comment: USB_MINI_AB_RECEPTACLE_3)
CON 5 USB MICRO_AB RA SKT SMT 0.65MM SP 110H AU; CAD_APPROVED: Yes; Temp_Range: -55&#8451; to 105&#8451;; MFG_PN01: 23970101#LCP-58LF; MFG_NAME01: ANYTRONIC CORPORATION LIMITED; AGILE_PN: 211-80104; Source_Path: D:\NXP_RT1050\RT1050_MB_PRO\SCH\IMXRT1052_MB_PRO_0418.DSN; CLASS: IO; HEIGHT: 2.8MM; ROHS: Yes; PCB DECAL: MICRO_USB_5S
footprint MICRO_USB_5S
pins: 0 SHLD6, 1 P1, 2 P2, 3 P3, 4 P4, 5 P5
text: 5V; D-; D+; ID; G

## USBLC6-2SC6
designator U?
footprint SOT-23-6
pins: 1 IO1, 2 GND, 3 IO2, 4 IO2, 5 VBUS, 6 IO1

## WSP6946
designator Q?
Dual N-Ch MOSFET
footprint SOP-8_150mil
pins: 1 S1 (out), 2 G1 (in), 3 S2 (out), 4 G2 (in), 5 D2 (in), 6 D2 (in), 7 D1 (in), 8 D1 (in)

## WSP6956
designator Q?
Dual N-Ch MOSFET
footprint SOP-8_150mil
pins: 1 S1 (out), 2 G1 (in), 3 S2 (out), 4 G2 (in), 5 D2 (in), 6 D2 (in), 7 D1 (in), 8 D1 (in)

## XTAL_2Pin
designator X?  value 4.9125MHz  (hidden comment: XTAL_2Pin)
Crystal Oscillator; Published: 8-Jun-2000; LatestRevisionDate: 17-Jul-2002; LatestRevisionNote: Re-released for DXP Platform.; Publisher: Altium Limited
footprint XTAL1
simulation model XTAL (Spice Subcircuit)
pins: 1 OSC1, 2 OSC2